# Altium footprint library pcblib-env.PcbLib: 22 footprints (part 2 of 2)
Each footprint in its own frame and in the unit in brackets; x right, y up, seen from the top. Pads: shape width x height; smd on the part's side, far side on the other; paste and mask are expansions set on the pad; w line width, h text height; cw(c..) or ccw(c..) is an arc to the next point about the centre after c.
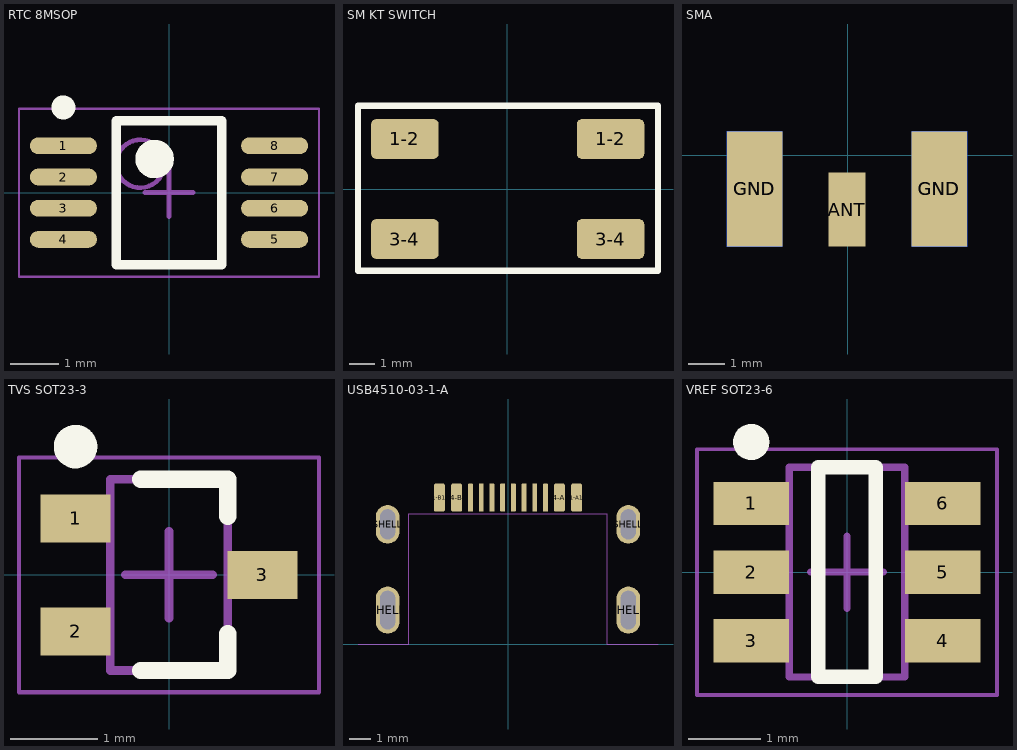
[diagram p1: the footprints below, top view; thin cyan lines are the x and y axes]

## RTC 8MSOP [mm]
height 1.1
pads (8):
  oval 1.4x0.35 smd: 1(-2.2,0.975) 2(-2.2,0.325) 3(-2.2,-0.325) 4(-2.2,-0.975) 5(2.2,-0.975) 6(2.2,-0.325) 7(2.2,0.325) 8(2.2,0.975)
Top Overlay:
  circle w0.4: c-0.3,0.7 r0.2
  circle w0.25: c-2.2,1.775 r0.125
  lines w0.2: -1.1,-1.5 1.1,-1.5 1.1,1.5 -1.1,1.5 -1.1,-1.5
Mechanical 13:
  circle w0.1: c-0.6,0.6 r0.5
  lines w0.1: -1.1,-1.5 1.1,-1.5 1.1,1.5 -1.1,1.5 -1.1,-1.5
Mechanical 15:
  lines w0.05: -3.125,-1.75 3.125,-1.75 3.125,1.75 -3.125,1.75 -3.125,-1.75
  lines w0.1: -0.5,0 0.5,0 ; 0,-0.5 0,0.5
3D body: height 1.1, standoff 0, extent -1.1,-1.5 1.1,1.5

## SM KT SWITCH [mm]
pads (4):
  rrect25% 2.7x1.59 smd: 1-2(-4.1,2) 1-2(4.125,2) 3-4(-4.1,-2) 3-4(4.125,-2)
Top Overlay:
  lines w0.254: -5.975,-3.275 6.025,-3.275 6.025,3.325 -5.975,3.325 -5.975,-3.275

## SMA [mm]
pads (5):
  rect 1.016x2.032 smd paste+0: ANT(-0.02,-1.496)
  rect 1.524x3.164 smd paste+0: GND(-2.56,-0.93) GND(2.52,-0.93)
  rect 1.524x3.164 smd far side paste+0: GND(-2.56,-0.93) GND(2.52,-0.93)
Top Paste:
  region: -0.503,-1.648 0.463,-1.648 0.463,-2.41 -0.503,-2.41

## TVS SOT23-3 [mm]
height 1
pads (3):
  rect 0.8x0.55 smd: 1(-1.075,0.65) 2(-1.075,-0.65) 3(1.075,0)
Top Overlay:
  circle w0.25: c-1.075,1.475 r0.125
  lines w0.2: -0.325,-1.1 0.675,-1.1 0.675,-0.675 ; -0.325,1.1 0.675,1.1 0.675,0.675
Mechanical 13:
  lines w0.1: -0.675,-1.1 0.675,-1.1 0.675,1.1 -0.675,1.1 -0.675,-1.1
Mechanical 15:
  lines w0.05: -1.725,-1.35 1.725,-1.35 1.725,1.35 -1.725,1.35 -1.725,-1.35
  lines w0.1: -0.5,0 0.5,0 ; 0,-0.5 0,0.5
3D body: height 1, standoff 0, extent -0.675,-1.1 0.675,1.1

## USB4510-03-1-A [mm]
pads (16):
  rrect25% 0.5x1.3 smd: A1-B12(-3.2,6.85) A4-B9(-2.4,6.85) B1-A12(3.2,6.85) B4-A9(2.4,6.85)
  rrect25% 0.23x1.3 smd: A5(-1.25,6.85) A6(-0.25,6.85) A7(0.25,6.85) A8(1.25,6.85) B5(1.75,6.85) B6(0.75,6.85) B7(-0.75,6.85) B8(-1.75,6.85)
  rrect100% 1.1x2.2 hole 0.7 slot 1.8 at 90 deg: SHELL(-5.62,1.6) SHELL(5.62,1.6)
  rrect100% 1.1x1.8 hole 0.7 slot 1.4 at 90 deg: SHELL(-5.62,5.6) SHELL(5.62,5.6)
Mechanical 1:
  lines w0.025: -7,0 -4.62,0 -4.62,6.1 4.62,6.1 4.62,0 7,0

## VREF SOT23-6 [mm]
height 1.3
pads (6):
  rect 1.05x0.6 smd: 1(-1.325,0.95) 2(-1.325,0) 3(-1.325,-0.95) 4(1.325,-0.95) 5(1.325,0) 6(1.325,0.95)
Top Overlay:
  circle w0.25: c-1.325,1.8 r0.125
  lines w0.2: -0.4,-1.45 -0.4,1.45 0.4,1.45 0.4,-1.45 -0.4,-1.45
Mechanical 13:
  lines w0.1: -0.8,-1.45 0.8,-1.45 0.8,1.45 -0.8,1.45 -0.8,-1.45
Mechanical 15:
  lines w0.05: -2.075,-1.7 2.075,-1.7 2.075,1.7 -2.075,1.7 -2.075,-1.7
  lines w0.1: -0.5,0 0.5,0 ; 0,-0.5 0,0.5
3D body: height 1.3, standoff 0, extent -0.8,-1.45 0.8,1.45